# Altium footprint library SamacSys.PcbLib: 49 footprints (part 2 of 4)
Each footprint in its own frame and in the unit in brackets; x right, y up, seen from the top. Pads: shape width x height; smd on the part's side, far side on the other; paste and mask are expansions set on the pad; w line width, h text height; cw(c..) or ccw(c..) is an arc to the next point about the centre after c.
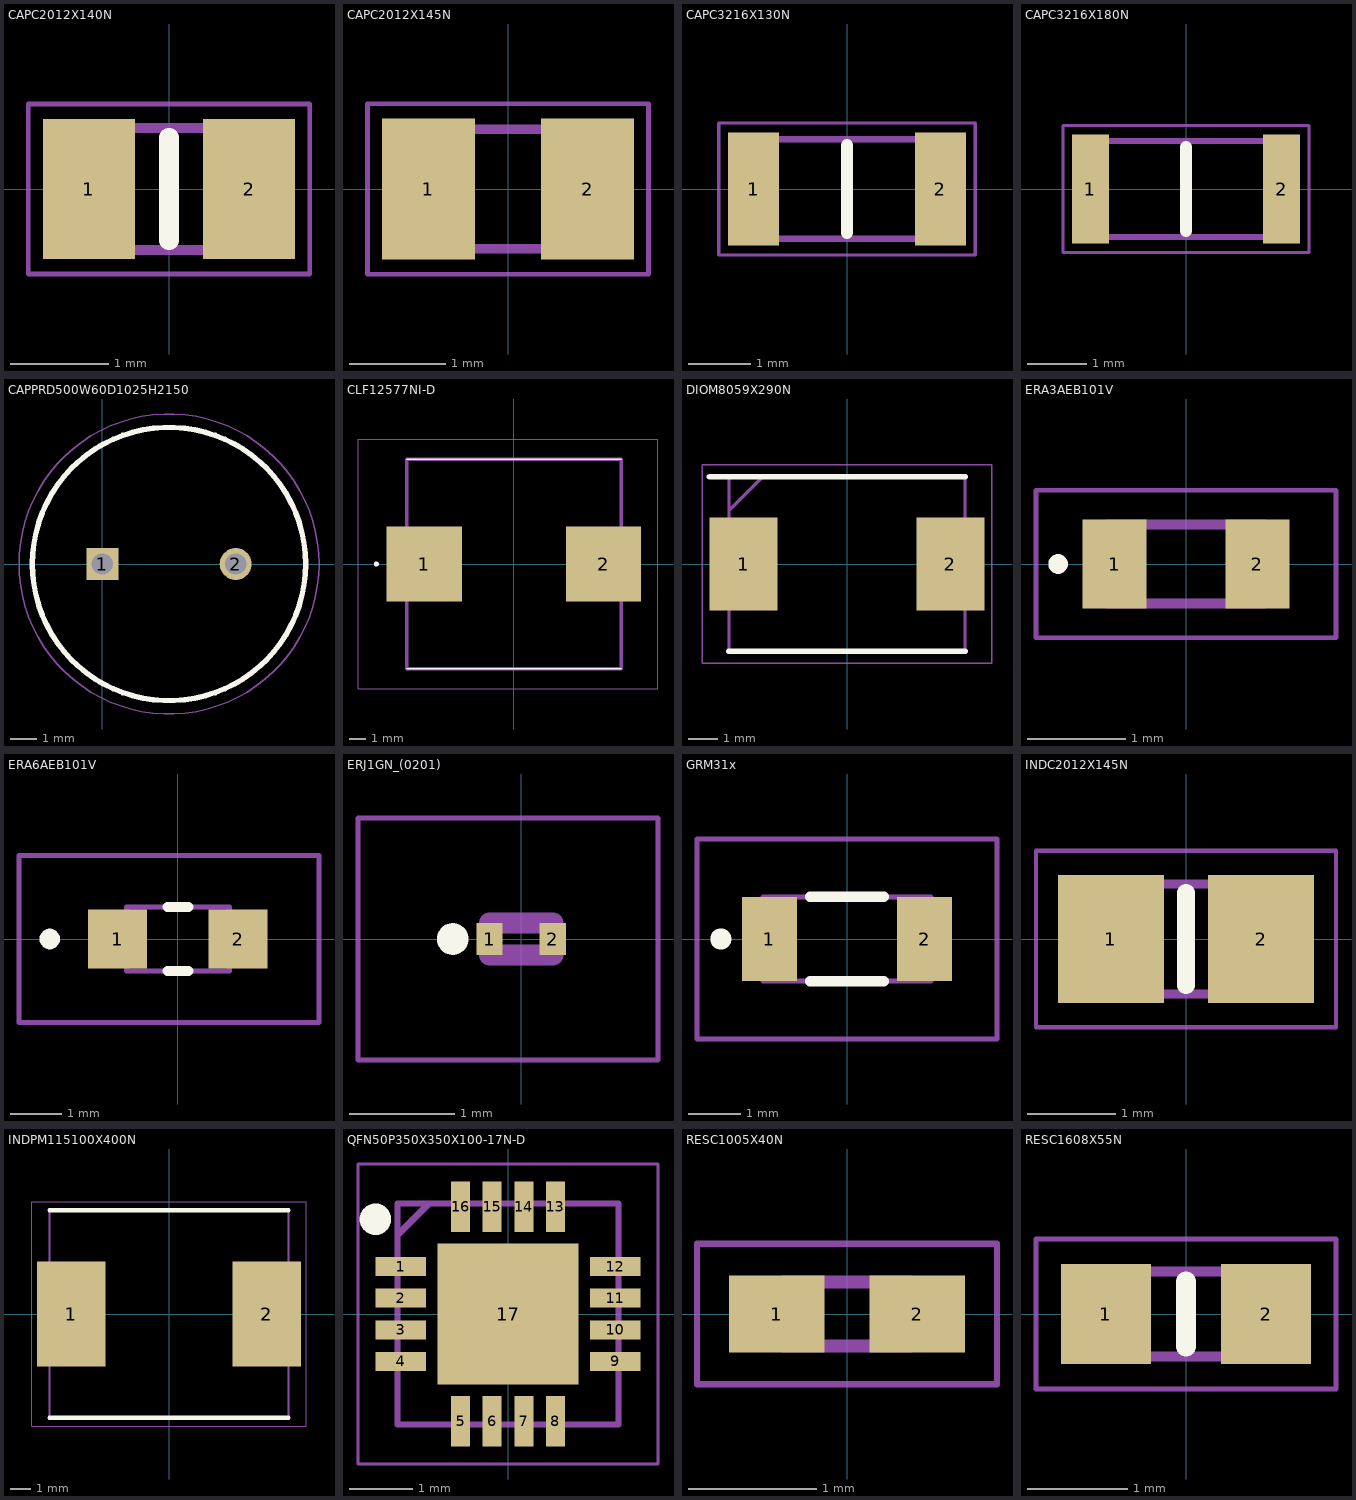
[diagram p1: the footprints below, top view; thin cyan lines are the x and y axes]

## CAPC2012X140N [mm]
pads (2):
  rect 0.94x1.43 smd: 1(-0.82,0) 2(0.82,0)
Top Overlay:
  lines w0.2: 0,-0.525 0,0.525
Mechanical 13:
  lines w0.1: -1,-0.625 -1,0.625 1,0.625 1,-0.625 -1,-0.625
Mechanical 15:
  lines w0.05: -1.44,-0.87 -1.44,0.87 1.44,0.87 1.44,-0.87 -1.44,-0.87
3D body "CL21A475KAQNNNE.stp": height 1.4, standoff 0, extent -1,-0.625 1,0.625

## CAPC2012X145N [mm]
pads (2):
  rect 0.97x1.47 smd: 1(-0.83,0) 2(0.83,0)
Mechanical 13:
  lines w0.1: -1,-0.625 -1,0.625 1,0.625 1,-0.625 -1,-0.625
Mechanical 15:
  lines w0.05: -1.465,-0.89 -1.465,0.89 1.465,0.89 1.465,-0.89 -1.465,-0.89
3D body "CL21A476MQYNNNG.stp": height 1.45, standoff 0, extent -1,-0.625 1,0.625

## CAPC3216X130N [mm]
pads (2):
  rect 0.82x1.82 smd: 1(-1.5,0) 2(1.5,0)
Top Overlay:
  lines w0.2: 0,-0.7 0,0.7
Mechanical 13:
  lines w0.1: -1.6,-0.8 -1.6,0.8 1.6,0.8 1.6,-0.8 -1.6,-0.8
Mechanical 15:
  lines w0.05: -2.06,-1.06 -2.06,1.06 2.06,1.06 2.06,-1.06 -2.06,-1.06
3D body "CGA5H4C0G2J222J115AA.stp": height 1.3, standoff 0, extent -1.6,-0.8 1.6,0.8

## CAPC3216X180N [mm]
pads (2):
  rect 0.62x1.82 smd: 1(-1.6,0) 2(1.6,0)
Top Overlay:
  lines w0.2: 0,-0.7 0,0.7
Mechanical 13:
  lines w0.1: -1.6,-0.8 -1.6,0.8 1.6,0.8 1.6,-0.8 -1.6,-0.8
Mechanical 15:
  lines w0.05: -2.06,-1.06 -2.06,1.06 2.06,1.06 2.06,-1.06 -2.06,-1.06
3D body "C3216X5R1E476M160AC..stp": height 1.6, standoff 0, extent -1.6,-0.8 1.6,0.8

## CAPPRD500W60D1025H2150 [mm]
pads (2):
  rect 1.2x1.2 hole 0.8: 1(0,0)
  round 1.2 hole 0.8: 2(5,0)
Top Overlay:
  circle w0.2: c2.5,0 r5.125
Mechanical 13:
  circle w0.1: c2.5,0 r5.125
Mechanical 15:
  circle w0.05: c2.5,0 r5.625
3D body "35PX1000MEFC10X20.stp": height 21.5, standoff -10, extent -2.75,-5.238 7.75,5.238

## CLF12577NI-D [mm]
pads (2):
  rect 4.5x4.5 smd: 1(-5.35,0) 2(5.35,0)
Top Overlay:
  circle w0.2: c-8.2,0 r0.05
  lines w0.1: -6.4,-6.25 6.4,-6.25 ; -6.4,6.25 6.4,6.25
Mechanical 13:
  lines w0.2: -6.4,-6.25 6.4,-6.25 6.4,6.25 -6.4,6.25 -6.4,-6.25
Mechanical 15:
  lines w0.05: -9.3,-7.45 8.6,-7.45 8.6,7.45 -9.3,7.45 -9.3,-7.45
3D body "CLF12577NIT-220M-D.stp": height 8, standoff 0, extent -6.52,-6.4 6.58,6.4

## DIOM8059X290N [mm]
pads (2):
  rect 2.3x3.15 smd: 1(-3.5,0) 2(3.5,0)
Top Overlay:
  lines w0.2: -4.65,2.952 4,2.952 ; -4,-2.952 4,-2.952
Mechanical 13:
  lines w0.1: -4,1.802 -2.85,2.952 ; -4,-2.952 4,-2.952 4,2.952 -4,2.952 -4,-2.952
Mechanical 15:
  lines w0.05: -4.9,-3.36 4.9,-3.36 4.9,3.36 -4.9,3.36 -4.9,-3.36
3D body "CDBC540-G.stp": height 2.9, standoff 0, extent -4,-2.953 4,2.953

## ERA3AEB101V [mm]
pads (2):
  rect 0.65x0.9 smd: 1(-0.725,0) 2(0.725,0)
Top Overlay:
  lines w0.1: -1.3,-0.05 cw(c-1.3,0) -1.3,0.05 cw(c-1.3,0) -1.3,-0.05
Mechanical 13:
  lines w0.1: -0.8,-0.4 0.8,-0.4 0.8,0.4 -0.8,0.4 -0.8,-0.4
Mechanical 15:
  lines w0.05: -1.525,-0.75 1.525,-0.75 1.525,0.75 -1.525,0.75 -1.525,-0.75
3D body "ERA-3ARW222V.stp": height 0.45, standoff 0, extent -0.8,-0.4 0.8,0.4

## ERA6AEB101V [mm]
pads (2):
  rect 1.15x1.15 smd: 1(-1.175,0) 2(1.175,0)
Top Overlay:
  lines w0.2: -0.2,-0.625 0.2,-0.625 ; -0.2,0.625 0.2,0.625 ; -2.5,-0.1 ccw(c-2.5,0) -2.5,0.1 ccw(c-2.5,0) -2.5,-0.1
Mechanical 13:
  lines w0.1: -1,-0.625 -1,0.625 1,0.625 1,-0.625 -1,-0.625
Mechanical 15:
  lines w0.1: -3.1,-1.625 -3.1,1.625 2.75,1.625 2.75,-1.625 -3.1,-1.625
3D body "ERA-6AEB134V.stp": height 0.5, standoff 0, extent -1,-0.625 1,0.625

## ERJ1GN_(0201) [mm]
pads (2):
  rect 0.25x0.3 smd: 1(-0.3,0) 2(0.3,0)
Top Overlay:
  circle w0.2: c-0.65,0 r0.05
Mechanical 13:
  lines w0.2: -0.3,-0.15 -0.3,0.15 0.3,0.15 0.3,-0.15 -0.3,-0.15
Mechanical 15:
  lines w0.05: -1.55,-1.15 -1.55,1.15 1.3,1.15 1.3,-1.15 -1.55,-1.15
3D body "ERJ-1GNF3742C.stp": height 0.23, standoff 0, extent -0.3,-0.15 0.3,0.15

## GRM31x [mm]
pads (2):
  rect 1.05x1.6 smd: 1(-1.475,0) 2(1.475,0)
Top Overlay:
  lines w0.2: -0.7,-0.8 0.7,-0.8 ; -0.7,0.8 0.7,0.8 ; -2.4,-0.1 cw(c-2.4,0) -2.4,0.1 cw(c-2.4,0) -2.4,-0.1
Mechanical 13:
  lines w0.1: -1.6,-0.8 1.6,-0.8 1.6,0.8 -1.6,0.8 -1.6,-0.8
Mechanical 15:
  lines w0.1: -2.854,-1.902 2.854,-1.902 2.854,1.902 -2.854,1.902 -2.854,-1.902
3D body "GRM31CD71H106KE11L.stp": height 1, standoff 0, extent -1.6,-0.8 1.6,0.8

## INDC2012X145N [mm]
pads (2):
  rect 1.2x1.45 smd: 1(-0.85,0) 2(0.85,0)
Top Overlay:
  lines w0.2: 0,-0.525 0,0.525
Mechanical 13:
  lines w0.1: -1,-0.625 1,-0.625 1,0.625 -1,0.625 -1,-0.625
Mechanical 15:
  lines w0.05: -1.7,-1 1.7,-1 1.7,1 -1.7,1 -1.7,-1
3D body "MLZ2012P220WT000.stp": height 1.45, standoff 0, extent -1,-0.625 1,0.625

## INDPM115100X400N [mm]
pads (2):
  rect 3.3x5.05 smd: 1(-4.7,0) 2(4.7,0)
Top Overlay:
  lines w0.2: -5.75,-5 5.75,-5 ; -5.75,5 5.75,5
Mechanical 13:
  lines w0.1: -5.75,-5 -5.75,5 5.75,5 5.75,-5 -5.75,-5
Mechanical 15:
  lines w0.05: -6.6,-5.4 -6.6,5.4 6.6,5.4 6.6,-5.4 -6.6,-5.4
3D body "104CDMCCDS-220MC.stp": height 4, standoff 0, extent -5.75,-5 5.75,5

## QFN50P350X350X100-17N-D [mm]
pads (17):
  rect 0.8x0.3 smd: 1(-1.7,0.75) 2(-1.7,0.25) 3(-1.7,-0.25) 4(-1.7,-0.75) 9(1.7,-0.75) 10(1.7,-0.25) 11(1.7,0.25) 12(1.7,0.75)
  rect 0.3x0.8 smd: 5(-0.75,-1.7) 6(-0.25,-1.7) 7(0.25,-1.7) 8(0.75,-1.7) 13(0.75,1.7) 14(0.25,1.7) 15(-0.25,1.7) 16(-0.75,1.7)
  rect 2.24x2.24 smd: 17(0,0)
Top Overlay:
  circle w0.25: c-2.1,1.5 r0.125
Mechanical 13:
  lines w0.1: -1.75,1.25 -1.25,1.75 ; -1.75,-1.75 -1.75,1.75 1.75,1.75 1.75,-1.75 -1.75,-1.75
Mechanical 15:
  lines w0.05: -2.375,-2.375 -2.375,2.375 2.375,2.375 2.375,-2.375 -2.375,-2.375
3D body "BQ24640RVAT.stp": height 1, standoff 0, extent -1.75,-1.75 1.75,1.75

## RESC1005X40N [mm]
pads (2):
  rect 0.75x0.6 smd: 1(-0.55,0) 2(0.55,0)
Mechanical 13:
  lines w0.1: -0.5,-0.25 -0.5,0.25 0.5,0.25 0.5,-0.25 -0.5,-0.25
Mechanical 15:
  lines w0.05: -1.175,-0.55 -1.175,0.55 1.175,0.55 1.175,-0.55 -1.175,-0.55
3D body "CRCW04026M65FKED.stp": height 0.35, standoff 0, extent -0.5,-0.25 0.5,0.25

## RESC1608X55N [mm]
pads (2):
  rect 0.9x1 smd: 1(-0.8,0) 2(0.8,0)
Top Overlay:
  lines w0.2: 0,-0.325 0,0.325
Mechanical 13:
  lines w0.1: -0.8,-0.425 0.8,-0.425 0.8,0.425 -0.8,0.425 -0.8,-0.425
Mechanical 15:
  lines w0.05: -1.5,-0.75 1.5,-0.75 1.5,0.75 -1.5,0.75 -1.5,-0.75
3D body "ERJ-3EKF1001V.stp": height 0.45, standoff 0, extent -0.8,-0.4 0.8,0.4